# Altium schematic symbol library 1985221.SchLib: 1 symbol
Pins are listed as number, name and electrical type; pins without a type are passive.

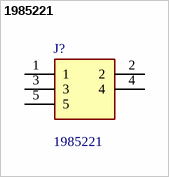
[diagram p0: symbol 1985221]

## 1985221
designator J?
PCB terminal block, nominal current: 8 A, rated voltage (III/2): 400 V, nominal cross section: 1.5 mm, number of potentials: 5, number of rows: 1, number of positions per row: 5, product range: PTSA 1,5, pitch: 3.5 mm, connection method: Push-in spring connection, mounting: Wave soldering, conductor/PCB connection direction: 45 , color: green, Pin layout: Zigzag pinning M, Solder pin [P]: 3.5 mm, number of solder pins per potential: 1, type of packaging: packed in cardboard. Offset soldering legs, two-row; Manufacturer_Name: Phoenix Contact; Geometry.Height: 13.1mm; Mouser Part Number: 651-1985221; Mouser Price/Stock: https://www.mouser.co.uk/ProductDetail/Phoenix-Contact/1985221?qs=A%2FKWGUWTCZhjhjKrroowDA%3D%3D; Manufacturer_Part_Number: 1985221; Datasheet Link: https://datasheet.datasheetarchive.com/originals/distributors/SFDatasheet-2/sf-00059075.pdf
footprint 1985221
pins: 1, 2, 3, 4, 5